# Altium footprint library Levitador_GMI.PcbLib: 28 footprints (part 2 of 2)
Each footprint in its own frame and in the unit in brackets; x right, y up, seen from the top. Pads: shape width x height; smd on the part's side, far side on the other; paste and mask are expansions set on the pad; w line width, h text height; cw(c..) or ccw(c..) is an arc to the next point about the centre after c.
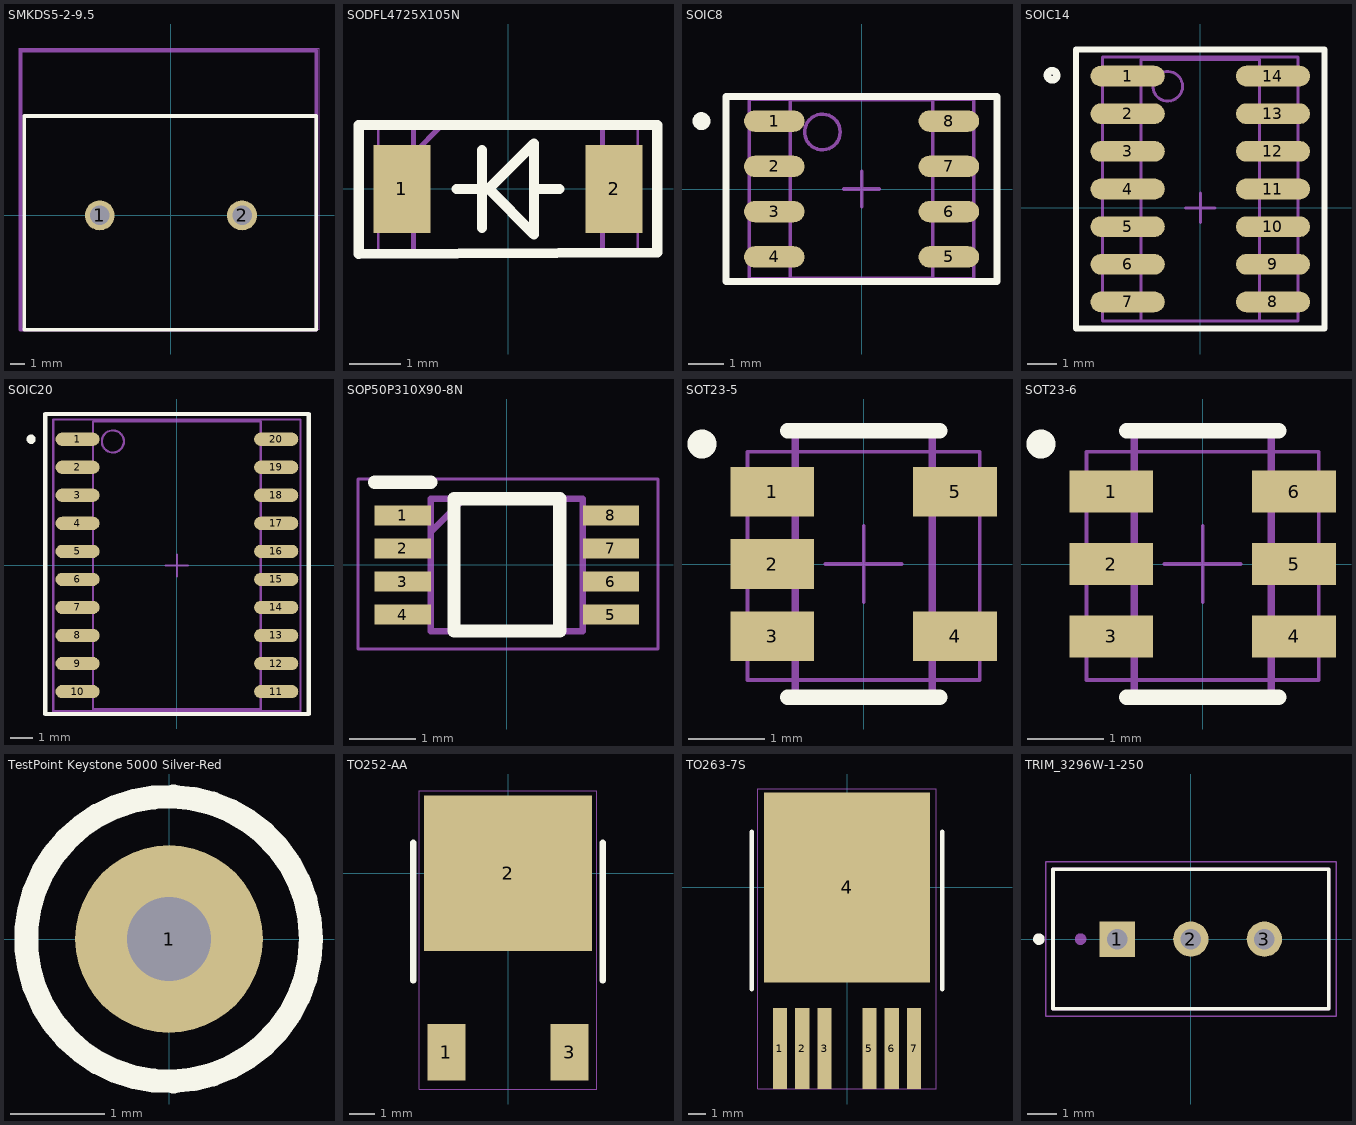
[diagram p1: the footprints below, top view; thin cyan lines are the x and y axes]

## SMKDS5-2-9.5 [mm] "Phoenix Contact; Terminal block; 2way; 32A max; 9.52mm pitch; 135°"
height 21.5
pads (2):
  round 2 hole 1.3: 1(-4.76,0) 2(4.76,0)
Top Overlay:
  lines w0.254: -9.804,-7.645 -9.804,6.655 9.728,6.655 9.728,-7.645 -9.804,-7.645
Mechanical 13:
  lines w0.254: -10.058,-7.645 9.728,-7.645 9.728,11.024 -10.058,11.024 -10.058,-7.645
Mechanical 15:
  lines w0.05: -10.16,-7.62 -10.16,11.176 9.906,11.176 9.906,-7.62 -10.16,-7.62
3D body "SMKDS5-2-9.5.stp": height 21.5, standoff -5, extent -10.084,-7.496 9.526,11.002

## SODFL4725X105N [mm]
pads (2):
  rect 1.12x1.72 smd: 1(-2.075,0) 2(2.075,0)
Top Overlay:
  lines w0.2: -2.921,-1.271 2.921,-1.245 2.921,1.25 -2.921,1.25 -2.921,-1.271
  lines w0.203: -1,0 -0.508,0 ; -0.508,-0.762 -0.508,0.762 ; 1,0 0.508,0 ; 0.508,0 0.508,0.889 -0.381,0 0.508,-0.889 0.508,0
Mechanical 13:
  lines w0.1: -1.85,0.69 -1.29,1.25 ; -1.85,-1.25 -1.85,1.25 1.85,1.25 1.85,-1.25 -1.85,-1.25
Mechanical 15:
  lines w0.05: -2.54,-1.27 -2.54,1.27 2.54,1.27 2.54,-1.27 -2.54,-1.27
3D body "RSX205LAM30TR.stp": height 1.05, standoff 0, extent -2.35,-1.25 2.35,1.25

## SOIC8 [mm]
pads (8):
  oval 1.7x0.6 smd: 1(-2.45,1.905) 2(-2.45,0.635) 3(-2.45,-0.635) 4(-2.45,-1.905) 5(2.45,-1.905) 6(2.45,-0.635) 7(2.45,0.635) 8(2.45,1.905)
Top Overlay:
  circle w0.25: c-4.494,1.905 r0.125
  lines w0.2: -3.8,-2.6 3.8,-2.6 3.8,2.6 -3.8,2.6 -3.8,-2.6
Mechanical 13:
  circle w0.1: c-1.1,1.6 r0.5
  lines w0.1: -2,-2.5 2,-2.5 2,2.5 -2,2.5 -2,-2.5
Mechanical 15:
  lines w0.1: -0.5,0 0.5,0 ; 0,-0.5 0,0.5 ; -3.15,-2.515 3.15,-2.515 3.15,2.515 -3.15,2.515 -3.15,-2.515
3D body "SOIC 8 150mils.step": height 1.7, standoff 0, extent -3.099,-2.388 3.099,2.438

## SOIC14 [mm]
pads (14):
  oval 2.5x0.7 smd: 1(-2.45,4.445) 2(-2.45,3.175) 3(-2.45,1.905) 4(-2.45,0.635) 5(-2.45,-0.635) 6(-2.45,-1.905) 7(-2.45,-3.175) 8(2.45,-3.175) 9(2.45,-1.905) 10(2.45,-0.635) 11(2.45,0.635) 12(2.45,1.905) 13(2.45,3.175) 14(2.45,4.445)
Top Overlay:
  circle w0.25: c-5.002,4.47 r0.156
  lines w0.2: -4.191,-4.064 4.191,-4.064 4.191,5.334 -4.191,5.334 -4.191,-4.064
Mechanical 13:
  circle w0.1: c-1.1,4.1 r0.5
  lines w0.1: -2,-3.81 2,-3.81 2,5 -2,5 -2,-3.81
Mechanical 15:
  lines w0.1: -0.5,0 0.5,0 ; 0,-0.5 0,0.5 ; -3.302,-3.81 3.302,-3.81 3.302,5.08 -3.302,5.08 -3.302,-3.81
3D body "SOIC-14 150mils.step": height 1.7, standoff 0, extent -3.124,-3.683 3.073,4.953

## SOIC20 [mm]
pads (20):
  oval 2x0.6 smd: 1(-4.5,5.715) 2(-4.5,4.445) 3(-4.5,3.175) 4(-4.5,1.905) 5(-4.5,0.635) 6(-4.5,-0.635) 7(-4.5,-1.905) 8(-4.5,-3.175) 9(-4.5,-4.445) 10(-4.5,-5.715) 11(4.5,-5.715) 12(4.5,-4.445) 13(4.5,-3.175) 14(4.5,-1.905) 15(4.5,-0.635) 16(4.5,0.635) 17(4.5,1.905) 18(4.5,3.175) 19(4.5,4.445) 20(4.5,5.715)
Top Overlay:
  circle w0.25: c-6.6,5.715 r0.082
  lines w0.2: -5.969,-6.731 -5.969,6.858 5.969,6.858 5.969,-6.731 -5.969,-6.731
Mechanical 13:
  circle w0.1: c-2.9,5.615 r0.5
  lines w0.1: -3.8,-6.515 -3.8,6.515 3.8,6.515 3.8,-6.515 -3.8,-6.515
Mechanical 15:
  lines w0.1: -0.5,0 0.5,0 ; 0,-0.5 0,0.5 ; -5.6,-6.61 -5.6,6.61 5.6,6.61 5.6,-6.61 -5.6,-6.61
3D body "SOIC20_JEDEC_MS-013AC.step": height 2.66, standoff 0, extent -5.315,-6.5 5.315,6.5

## SOP50P310X90-8N [mm]
pads (8):
  rect 0.85x0.3 smd: 1(-1.575,0.75) 2(-1.575,0.25) 3(-1.575,-0.25) 4(-1.575,-0.75) 5(1.575,-0.75) 6(1.575,-0.25) 7(1.575,0.25) 8(1.575,0.75)
Top Overlay:
  lines w0.2: -2,1.25 -1.15,1.25 ; -0.8,-1 0.8,-1 0.8,1 -0.8,1 -0.8,-1
Mechanical 13:
  lines w0.1: -1.15,0.5 -0.65,1 ; -1.15,-1 1.15,-1 1.15,1 -1.15,1 -1.15,-1
Mechanical 15:
  lines w0.05: -2.25,-1.27 2.286,-1.27 2.286,1.3 -2.25,1.3 -2.25,-1.27
3D body "SN74LVC3G06DCUT.stp": height 0.77, standoff 0, extent -1.55,-1 1.55,1

## SOT23-5 [mm]
pads (5):
  rect 1.1x0.65 smd: 1(-1.2,0.95) 2(-1.2,0) 3(-1.2,-0.95) 4(1.2,-0.95) 5(1.2,0.95)
Top Overlay:
  circle w0.25: c-2.122,1.575 r0.065
  lines w0.2: -1,-1.75 1,-1.75 ; -1,1.75 1,1.75
Mechanical 13:
  lines w0.1: -0.9,-1.778 0.9,-1.778 0.9,1.778 -0.9,1.778 -0.9,-1.778
Mechanical 15:
  lines w0.05: -0.5,0 0.5,0 ; 0,-0.5 0,0.5 ; -1.524,-1.524 1.524,-1.524 1.524,1.473 -1.524,1.473 -1.524,-1.524
3D body "SOT23-6.STEP": height 1.39, standoff -0.07, extent -1.5,-1.5 1.5,1.5

## SOT23-6 [mm]
pads (6):
  rect 1.1x0.55 smd: 1(-1.2,0.95) 2(-1.2,0) 3(-1.2,-0.95) 4(1.2,-0.95) 5(1.2,0) 6(1.2,0.95)
Top Overlay:
  circle w0.25: c-2.122,1.575 r0.065
  lines w0.2: -1,-1.75 1,-1.75 ; -1,1.75 1,1.75
Mechanical 13:
  lines w0.1: -0.9,-1.778 0.9,-1.778 0.9,1.778 -0.9,1.778 -0.9,-1.778
Mechanical 15:
  lines w0.05: -0.5,0 0.5,0 ; 0,-0.5 0,0.5 ; -1.524,-1.524 1.524,-1.524 1.524,1.473 -1.524,1.473 -1.524,-1.524
3D body "SOT23-6.STEP": height 1.39, standoff -0.07, extent -1.5,-1.5 1.5,1.5

## TestPoint Keystone 5000 Silver-Red [mm]
pads (1):
  round 2 hole 0.9: 1(0,0)
Top Overlay:
  circle w0.254: c-0.005,0 r1.519
  text ".Comment" at -2.286,2.286 h0.75
Mechanical 15:
  circle w0.05: c0,0 r1.6
3D body "Test Point Keystone 5000 Silver-Red.step": height 4.89, standoff -3.07, extent -1.27,-1.27 1.27,1.27

## TO252-AA [mil]
pads (3):
  rect 60x89 smd: 1(-97,-282) 3(97,-282)
  rect 265x245 smd: 2(0,0)
Top Overlay:
  lines w10: -149,-169 -149,48 ; 149,-169 149,48
Mechanical 15:
  lines w1.97: -140,-340 140,-340 140,130 -140,130 -140,-340
3D body "TO-252AA (DPAK).step": height 156.3, standoff 61.81, extent -132.55,-291.08 132.56,106.56

## TO263-7S [mm]
pads (7):
  rect 0.8x4.6 smd: 1(-3.81,-9.15) 2(-2.54,-9.15) 3(-1.27,-9.15) 5(1.27,-9.15) 6(2.54,-9.15) 7(3.81,-9.15)
  rect 9.4x10.8 smd: 4(0,0)
Top Overlay:
  lines w0.254: -5.41,-5.791 -5.41,3.15 ; 5.41,-5.791 5.41,3.15
Mechanical 15:
  lines w0.05: -5.08,-11.43 -5.08,5.588 5.08,5.588 5.08,-11.43 -5.08,-11.43
3D body "TO263-7S.STEP": height 4.78, standoff -0.02, extent -5.025,-10.971 4.975,4.699

## TRIM_3296W-1-250 [mm]
pads (3):
  rect 1.218x1.218 hole 0.71: 1(-2.54,0)
  round 1.218 hole 0.71: 2(0,0) 3(2.54,0)
Top Overlay:
  circle w0.2: c-5.25,0 r0.1
  lines w0.127: -4.765,-2.41 -4.765,2.42 4.765,2.42 4.765,-2.41 -4.765,-2.41
Mechanical 13:
  circle w0.2: c-3.81,0 r0.1
  lines w0.127: -4.765,-2.41 4.765,-2.41 4.765,2.42 -4.765,2.42 -4.765,-2.41
Mechanical 15:
  lines w0.05: -5.015,-2.66 5.015,-2.66 5.015,2.67 -5.015,2.67 -5.015,-2.66
3D body "step_temp.STEP": height 11.55, standoff -7.72, extent -4.765,-2.42 4.765,2.41